# Altium schematic symbol library SoilSensor.SchLib: 9 symbols
Pins are listed as number, name and electrical type; pins without a type are passive.

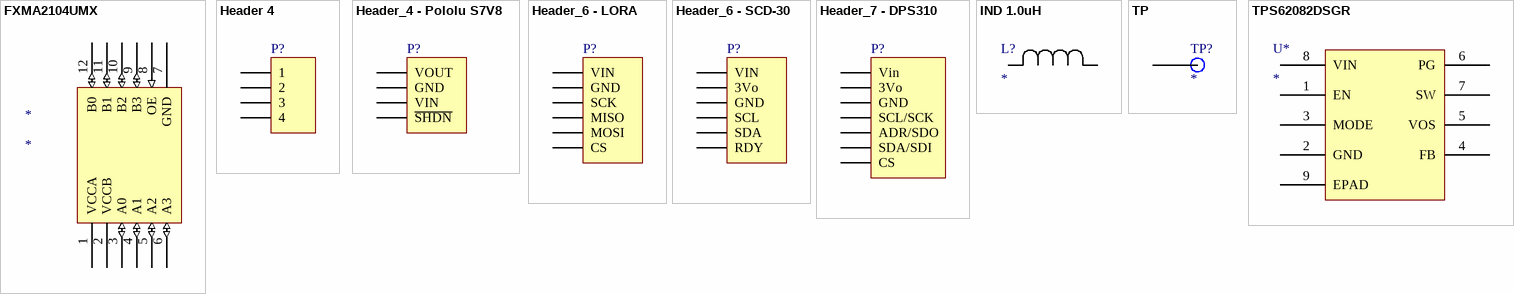
[diagram p0: symbols FXMA2104UMX to TPS62082DSGR]

## FXMA2104UMX
designator *
footprint QFN40P160X160X50-12N
pins: 1 VCCA (power), 2 VCCB (power), 3 A0 (io), 4 A1 (io), 5 A2 (io), 6 A3 (io), 7 GND (power), 8 OE (in), 9 B3 (io), 10 B2 (io), 11 B1 (io), 12 B0 (io)

## Header 4
designator P?
Header, 4-Pin; LatestRevisionDate: 17-Jul-2002; LatestRevisionNote: Re-released for DXP Platform.; Publisher: Altium Limited
footprint Pin Header 1x4 TH Pitch 2.54mm (PinHeader 1x4 TH Pitch 2.54mm)
pins: 1, 2, 3, 4

## Header_4 - Pololu S7V8
designator P?
Header, 4-Pin; LatestRevisionDate: 17-Jul-2002; LatestRevisionNote: Re-released for DXP Platform.; Publisher: Altium Limited
footprint Pin Header S7V8 (PinHeader 1x4 TH Pitch 2.54mm)
pins: 1 VOUT, 2 GND, 3 VIN, 4 ~{SHDN}

## Header_6 - LORA
designator P?
Header, 6-Pin; LatestRevisionDate: 17-Jul-2002; LatestRevisionNote: Re-released for DXP Platform.; Publisher: Altium Limited
footprint Pin Header LORA (PinHeader 1x6 TH Pitch 2.54mm)
pins: 1 VIN, 2 GND, 3 SCK, 4 MISO, 5 MOSI, 6 CS

## Header_6 - SCD-30
designator P?
Header, 6-Pin; LatestRevisionDate: 17-Jul-2002; LatestRevisionNote: Re-released for DXP Platform.; Publisher: Altium Limited
footprint Pin Header SCD-30 (PinHeader 1x6 TH Pitch 2.54mm)
pins: 1 VIN, 2 3Vo, 3 GND, 4 SCL, 5 SDA, 6 RDY

## Header_7 - DPS310
designator P?
Header, 7-Pin; LatestRevisionDate: 17-Jul-2002; LatestRevisionNote: Re-released for DXP Platform.; Publisher: Altium Limited
footprint Pin Header DPS310 (PinHeader 1x7 TH Pitch 2.54mm)
pins: 1 Vin, 2 3Vo, 3 GND, 4 SCL/SCK, 5 ADR/SDO, 6 SDA/SDI, 7 CS

## IND 1.0uH
designator L?
SLO0415S1R0MTT; Manufacturer_Part_Number: XFL5030-102ME; Vendor: CoilCraft; Type: DEV; Value: 1.0uH; Tolerance: +-20%; Maximum DC Current: 28A; Inductance: 1uH; Qualification: AEC-Q200; RefDes: RefDes; Do Not Populate: *; Temperature: -40C ~ 125C; Package / Case: 5.48mm x 5.28mm x 3.1mm; Height: 3.1mm; Link: https://www.mouser.com/ProductDetail/Coilcraft/XFL5030-102MEB?qs=sGAEpiMZZMsg%252by3WlYCkUy0Se8nYOmwuY%252bO5URw9yeY%3d; Datasheet: https://www.mouser.com/datasheet/2/597/xfl5030-1223909.pdf; LCSC Part #: C325988
footprint INDP4340X15N (Precision Wire Wound Inductor, 2-Leads, Body 4.30x4.00mm, IPC Medium Density)
pins: 1, 2

## TP
designator TP?
SMD TEST POINT
footprint Test Point (SMD Test Point)
pins: 1

## TPS62082DSGR
designator U*
footprint DSG8_1P6X0P9
pins: 1 EN (power), 2 GND (power), 3 MODE (power), 4 FB (power), 5 VOS (power), 6 PG (power), 7 SW (power), 8 VIN (power), 9 EPAD (power)